# Altium schematic symbol library Connectors.SchLib: 8 symbols
Pins are listed as number, name and electrical type; pins without a type are passive.

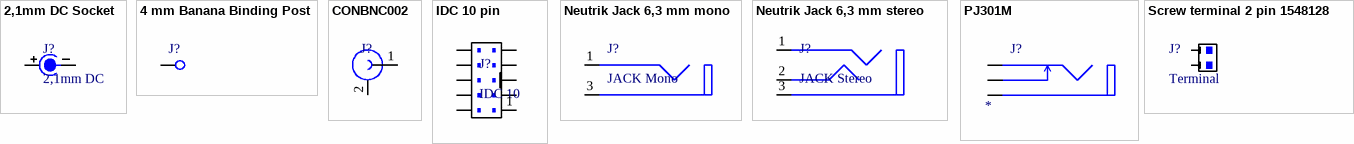
[diagram p0: symbols 2,1mm DC Socket to Screw terminal 2 pin 1548128]

## 2,1mm DC Socket
designator J?, comment 2,1mm DC
2,1 mm DC Connector Center Negative PCB Mount; Package Type: THT
footprint 2,1mm DC socket (2,1 mm DC PCB mount socket)
pins: 1, 2

## 4 mm Banana Binding Post
designator J?, comment 4mm Banana  (value not drawn)
4mm Banana Socket PCB Mount
footprint 4mm banana socket (4 mm banana socket PCB mount)
pins: 1

## CONBNC002
designator J?, comment BNC  (value not drawn)
BNC Conncector PCB Mount; Manufacturer: TE Connectivity; Package Type: THT
footprint BNC (PCB mounted BNC)
pins: 1, 2

## IDC 10 pin
designator J?, comment IDC 10
10 Pin IDC Connector
footprint IDC 10 PIN (10 PIN IDC Connector)
pins: 1, 2, 3, 4, 5, 6, 7, 8, 9, 10

## Neutrik Jack 6,3 mm mono
designator J?, comment JACK Mono
6,3 mm Neutrik Mono Jack PCB Mount; Package Type: THT; Manufacturer: Neutrik
footprint Neutrik jack mono (Neutrik 6,3 mm jack mono PCB mount)
pins: 1, 3

## Neutrik Jack 6,3 mm stereo
designator J?, comment JACK Stereo
6,3 mm Neutrik Stereo Jack PCB Mount; Package Type: THT; Manufacturer: Neutrik
footprint Neutrik jack stereo (Neutrik 6,3 mm jack stereo PCB mount)
pins: 1, 2, 3

## PJ301M
designator J?, comment JACK Mono  (value not drawn)
PJ301M Eurorack 3,5 mm Patch Socket PCB Mount; Package Type: THT; Label: *
footprint PJ301M (3,5 mm Jack mono PCB Mount)
pins: 1, 2, 3

## Screw terminal 2 pin 1548128
designator J?, comment Terminal
2 Pin Screw Serminal 5,08 mm Pitch; Manufacturer: Phoenix Contact; Package Type: THT
footprint Screw terminal 2 pin
pins: 1, 2